# Altium schematic symbol library H18R1.SchLib: 1 symbol
Pins are listed as number, name and electrical type; pins without a type are passive.

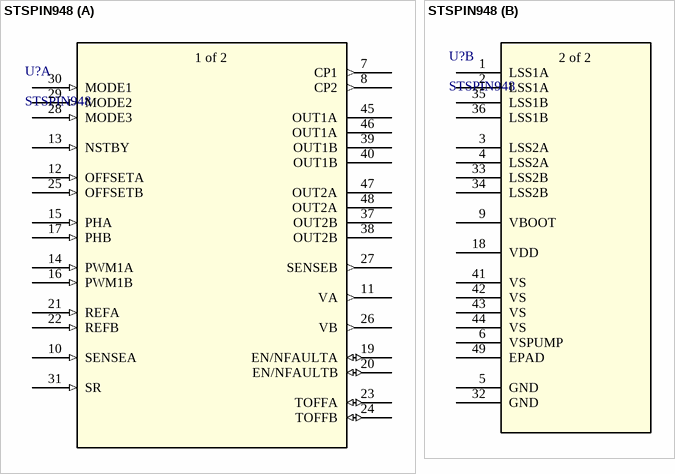
[diagram p0: symbol STSPIN948]

## STSPIN948
designator U?
Scalable 4.5 A dual full-bridge driver for brushed DC motors; Manufacturer_Name: STMicroelectronics; Type: Power Management; Copyright: Copyright (C) 2025 Ultra Librarian. All rights reserved.; Manufacturer_Part_Number: STSPIN948; Datasheet: https://www.st.com/resource/en/datasheet/stspin948.pdf; RefDes: RefDes
footprint VFQFPN48_7P15X7P15X0P5_STM
part A pins: 7 CP1 (out), 8 CP2 (out), 10 SENSEA (in), 11 VA (out), 12 OFFSETA (in), 13 NSTBY (in), 14 PWM1A (in), 15 PHA (in), 16 PWM1B (in), 17 PHB (in), 19 EN/NFAULTA (io), 20 EN/NFAULTB (io), 21 REFA (in), 22 REFB (in), 23 TOFFA (io), 24 TOFFB (io), 25 OFFSETB (in), 26 VB (out), 27 SENSEB (out), 28 MODE3 (in), 29 MODE2 (in), 30 MODE1 (in), 31 SR (in), 37 OUT2B (power), 38 OUT2B (power), 39 OUT1B (power), 40 OUT1B (power), 45 OUT1A (power), 46 OUT1A (power), 47 OUT2A (power), 48 OUT2A (power)
part B pins: 1 LSS1A (power), 2 LSS1A (power), 3 LSS2A (power), 4 LSS2A (power), 5 GND (power), 6 VSPUMP (power), 9 VBOOT (power), 18 VDD (power), 32 GND (power), 33 LSS2B (power), 34 LSS2B (power), 35 LSS1B (power), 36 LSS1B (power), 41 VS (power), 42 VS (power), 43 VS (power), 44 VS (power), 49 EPAD (power)
part A text: 1 of 2
part B text: 2 of 2